# EAGLE library part 2088-RGB-5 (library LED)
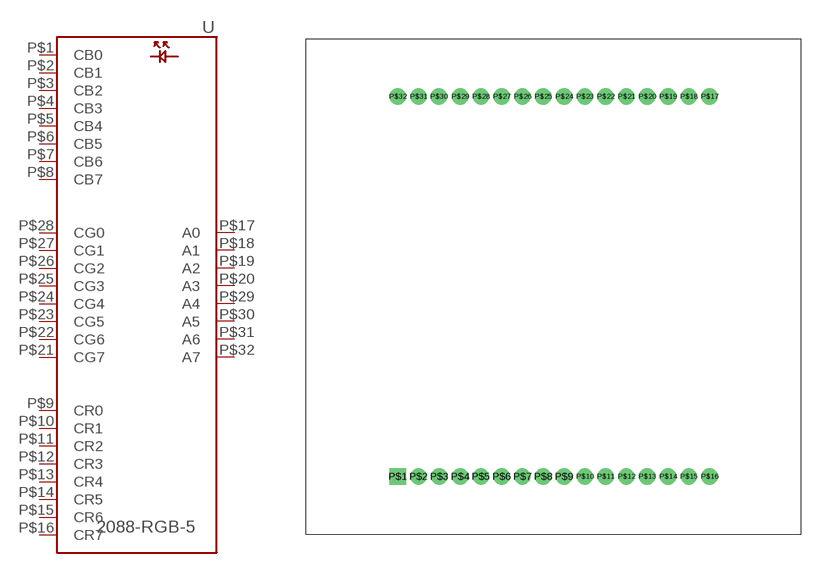
[diagram p3: symbol with the pads of 2088-RGB-5; footprint 2088-RGB-5]

Designator prefix -

## 2088-RGB-5  [2088-RGB-5]
P$1  CB0
P$2  CB1
P$3  CB2
P$4  CB3
P$5  CB4
P$6  CB5
P$7  CB6
P$8  CB7
P$9  CR0
P$10  CR1
P$11  CR2
P$12  CR3
P$13  CR4
P$14  CR5
P$15  CR6
P$16  CR7
P$17  A0
P$18  A1
P$19  A2
P$20  A3
P$21  CG7
P$22  CG6
P$23  CG5
P$24  CG4
P$25  CG3
P$26  CG2
P$27  CG1
P$28  CG0
P$29  A4
P$30  A5
P$31  A6
P$32  A7

## Footprint 2088-RGB-5 (pad centres in mm)
drill 0.8 pad 2 square: P$1 0,0
drill 0.8 pad 2: P$2 2.54,0; P$3 5.08,0; P$4 7.62,0; P$5 10.16,0; P$6 12.7,0; P$7 15.24,0; P$8 17.78,0; P$9 20.32,0; P$10 22.86,0; P$11 25.4,0; P$12 27.94,0; P$13 30.48,0; P$14 33.02,0; P$15 35.56,0; P$16 38.1,0; P$17 38.1,46.4; P$18 35.56,46.4; P$19 33.02,46.4; P$20 30.48,46.4; P$21 27.94,46.4; P$22 25.4,46.4; P$23 22.86,46.4; P$24 20.32,46.4; P$25 17.78,46.4; P$26 15.24,46.4; P$27 12.7,46.4; P$28 10.16,46.4; P$29 7.62,46.4; P$30 5.02,46.4; P$31 2.54,46.4; P$32 0,46.4